# Altium footprint library MOLEX-532610871.PcbLib: 1 footprints
Each footprint in its own frame and in the unit in brackets; x right, y up, seen from the top. Pads: shape width x height; smd on the part's side, far side on the other; paste and mask are expansions set on the pad; w line width, h text height; cw(c..) or ccw(c..) is an arc to the next point about the centre after c.
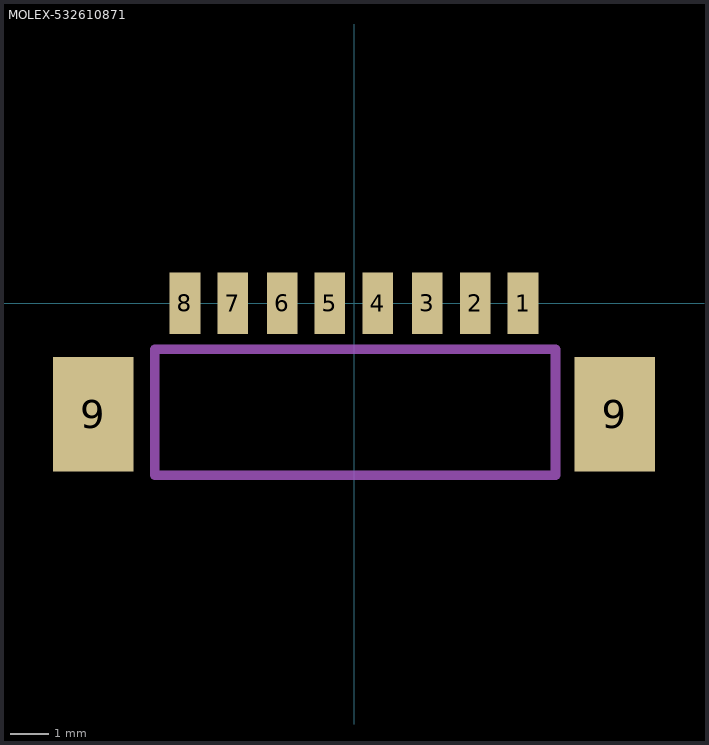
[diagram p0: the footprint, top view; thin cyan lines are the x and y axes]

## MOLEX-532610871 [mm]
pads (10):
  rect 0.8x1.6 smd: 1(4.42,0) 2(3.17,0) 3(1.92,0) 4(0.62,0) 5(-0.63,0) 6(-1.88,0) 7(-3.17,0) 8(-4.42,0)
  rect 2.1x3 smd: 9(-6.82,-2.9) 9(6.82,-2.9)
Mechanical 13:
  lines w0.254: -5.207,-4.5 -5.207,-1.2 5.27,-1.2 5.27,-4.5 -5.207,-4.5
3D body "532610871.stp": height 3.4, standoff 0, extent -7.575,-4.64 7.575,0.56